# Altium schematic symbol library RS1MB-13-F.Schlib: 1 symbol
Pins are listed as number, name and electrical type; pins without a type are passive.

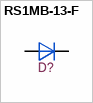
[diagram p0: symbol RS1MB-13-F]

## RS1MB-13-F
designator D?  (value not drawn)
DIODE GEN PURP 1KV 1A SMB; Manufacturer 1: Diodes; Polarity: Standard; Max Surge Current: 30A; Forward Voltage: 1.3V; Element Configuration: Single; Peak Reverse Current: 5uA; Recovery Time: 500ns; Capacitance: 15pF; Supplier 1: Digi-Key; Manufacturer Part Number 1: RS1MB-13-F; Stock 1: 40693; Pricing 1: 1=0.42000, 10=0.33900, 100=0.23070, 500=0.17304, 1000=0.12978 (USD); RoHS: Yes; Mount: Surface Mount; Case/Package: SMB; Number of Pins: 2; Weight: 0.00328oz; Min Operating Temperature: -65°C; Max Operating Temperature: 150°C; Package Quantity: 3000; Packaging: Tape and Reel; Average Rectified Current: 1A; Peak Non-Repetitive Surge Current: 30A; Voltage Rating (DC): 1kV; Current Rating: 1A; Output Current: 1A; Max Reverse Voltage (DC): 1kV; Max Repetitive Reverse Voltage (Vrrm): 1kV; Forward Current: 1A; Reverse Recovery Time: 500ns; Reverse Voltage (DC): 1kV; Length: 4.57mm; Height: 2.42mm; Width: 3.94mm; Radiation Hardening: No; Lead Free: Lead Free; ComponentLink1URL: https://datasheet.ciiva.com/8301/ds15002-8301350.pdf?src-supplier=Avnet; ComponentLink1Description: https://datasheet.ciiva.com/8301/ds15002-8301350.pdf?src-supplier=Avnet; ComponentLink2URL: https://datasheet.ciiva.com/8301/ds15002-8301721.pdf?src-supplier=Avnet; ComponentLink2Description: https://datasheet.ciiva.com/8301/ds15002-8301721.pdf?src-supplier=Avnet; ComponentLink3URL: https://datasheet.ciiva.com/26818/getdatasheetpartid-91887-26818092.pdf?src-supplier=Verical; ComponentLink3Description: https://datasheet.ciiva.com/26818/getdatasheetpartid-91887-26818092.pdf?src-supplier=Verical; ComponentLink4URL: https://datasheet.ciiva.com/25946/ds15002-25946239.pdf?src-supplier=Avnet+Europe; ComponentLink4Description: https://datasheet.ciiva.com/25946/ds15002-25946239.pdf?src-supplier=Avnet+Europe; Supplier Part Number 1: RS1MB-FDICT-ND
footprint SMB (Molded Diode, 2-Leads, Body 5,29x3,62mm, IPC Medium Density)
pins: 1 A, 2 K